# Altium footprint library PcbLib1.PcbLib: 6 footprints
Each footprint in its own frame and in the unit in brackets; x right, y up, seen from the top. Pads: shape width x height; smd on the part's side, far side on the other; paste and mask are expansions set on the pad; w line width, h text height; cw(c..) or ccw(c..) is an arc to the next point about the centre after c.
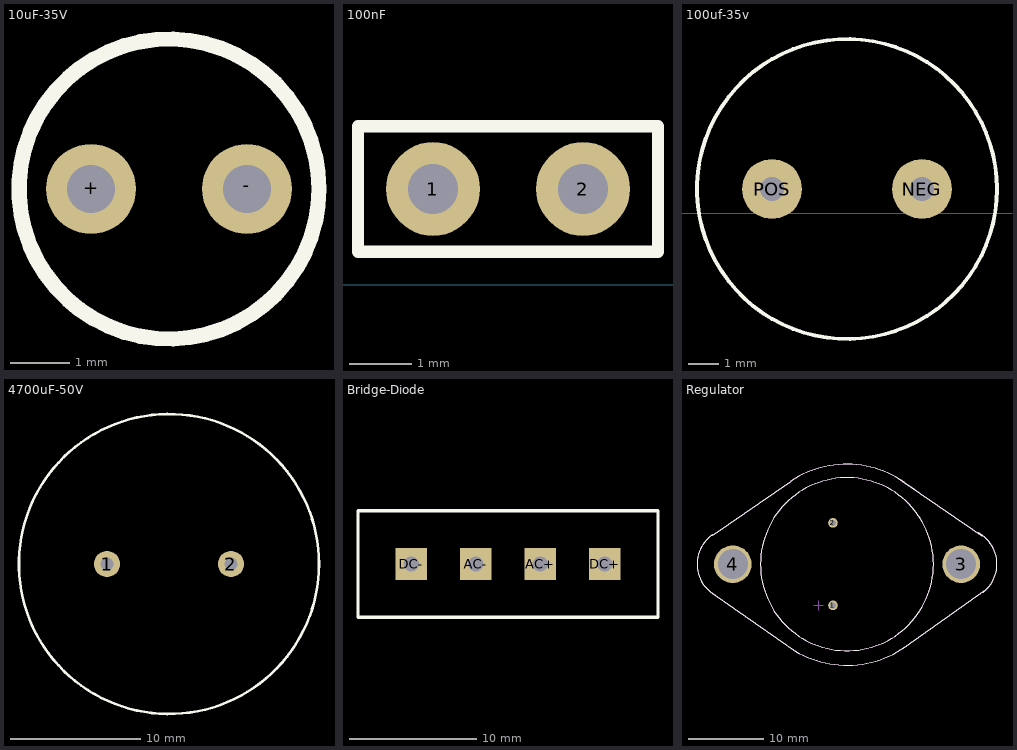
[diagram p0: the footprints below, top view; thin cyan lines are the x and y axes]

## 10uF-35V [mm]
pads (2):
  round 1.5 hole 0.8: +(167.77,-38.492) -(170.37,-38.492)
Top Overlay:
  circle w0.254: c169.07,-38.492 r2.5

## 100nF [mm]
pads (2):
  round 1.5 hole 0.8: 1(124.489,1.529) 2(126.889,1.529)
Top Overlay:
  lines w0.2: 123.289,0.529 128.089,0.529 128.089,2.529 123.289,2.529 123.289,0.529
3D body "User Library-Ceramic Capacitor 5x3_75mm.step": height 5.46, standoff -3.5, extent 123.231,0.529 128.148,2.529

## 100uf-35v [mm]
pads (2):
  round 2 hole 0.8: NEG(44.384,0.807) POS(39.384,0.807)
Top Layer:
  region: 44.905,0.996 44.618,1.309 44.195,1.328 43.882,1.041 43.863,0.618 44.15,0.305 44.573,0.286 44.886,0.573
Bottom Layer:
  region: 44.905,0.996 44.618,1.309 44.195,1.328 43.882,1.041 43.863,0.618 44.15,0.305 44.573,0.286 44.886,0.573
Top Overlay:
  circle w0.127: c41.884,0.807 r5
Multi-Layer:
  region: 44.905,0.996 44.618,1.309 44.195,1.328 43.882,1.041 43.863,0.618 44.15,0.305 44.573,0.286 44.886,0.573
3D body "User Library-Cap electro 10x16x5_0mm.STEP": height 16.53, standoff -3.74, extent 36.867,-4.227 46.917,5.824

## 4700uF-50V [mm]
pads (2):
  round 2 hole 1: 1(98.061,-24.103)
  round 2 / inner round 1.524 / far side round 1.5 hole 1: 2(107.561,-24.103)
Top Overlay:
  circle w0.2: c102.811,-24.103 r11.5

## Bridge-Diode [mm]
pads (4):
  rect 2.5x2.5 hole 1.2: AC+(21.945,-19.912) AC-(16.865,-19.912) DC+(27.025,-19.912) DC-(11.785,-19.912)
Top Overlay:
  lines w0.254: 7.594,-24.103 7.594,-15.721 31.216,-15.721 31.216,-24.103 7.594,-24.103
3D body "ASA_bridge diode.STEP": height 18.8, standoff -17.83, extent 8.382,-21.182 30.682,-17.422

## Regulator [mil]
pads (4):
  round 50 hole 30: 1(1619,-2724) 2(1619,-2295)
  round 196 hole 156: 3(2286,-2510) 4(1098,-2510)
Top Overlay:
  lines w0: 993.05,-2356.97 ccw(c1095.98,-2509.56) 1003.95,-2668.97 ; 1400.37,-2078.42 cw(c1691.13,-2509.5) 1989.38,-2083.56 ; 1421.01,-2960.01 ccw(c1692.1,-2508.83) 1994.01,-2940 ; 2374.31,-2346.63 cw(c2287.86,-2509.22) 2472,-2509.22 ; 2401.23,-2654.82 ccw(c2287.85,-2509.71) 2472,-2509.71
  lines w6: 991,-2662 1438,-2973 ; 993,-2358 1403,-2078 ; 1962,-2065 2042,-2120 ; 1980,-2078 2394,-2362 ; 1984,-2946 2407,-2649 ; 1242,-2510 ccw(c1692,-2510) 2142,-2510 ccw(c1692,-2510) 1242,-2510
Mechanical 4:
  lines w0: 993.05,-2356.97 ccw(c1095.98,-2509.56) 1003.95,-2668.97 cw(c1095.98,-2509.56) 993.05,-2356.97 ; 1400.37,-2078.42 cw(c1691.13,-2509.5) 1989.38,-2083.56 ccw(c1691.13,-2509.5) 1400.37,-2078.42 ; 1421.01,-2960.01 ccw(c1692.1,-2508.83) 1994.01,-2940 cw(c1692.1,-2508.83) 1421.01,-2960.01 ; 2374.51,-2346.73 cw(c2287.99,-2509.44) 2401.44,-2654.65 ccw(c2287.99,-2509.44) 2374.51,-2346.73
  lines w6: 1242,-2510 ccw(c1692,-2510) 2142,-2510 ; 1242,-2510 cw(c1692,-2510) 2142,-2510 ; 1242,-2510 ccw(c1692,-2510) 2142,-2510 ; 1242,-2510 cw(c1692,-2510) 2142,-2510 ; 981,-2654 1017,-2678 981,-2654 ; 991,-2662 1438,-2973 991,-2662 ; 993,-2358 1403,-2078 993,-2358 ; 1519,-2724 1569,-2724 1519,-2724 ; 1544,-2749 1544,-2699 1544,-2749 ; 1962,-2065 2042,-2120 1962,-2065 ; 1980,-2078 2394,-2362 1980,-2078 ; 1984,-2946 2407,-2649 1984,-2946
3D body "2N3055--3DModel-STEP-56544(1).STEP": height 351.18, standoff -515.75, extent 919.26,-3011.97 2450.75,-2008.03